# Altium footprint library SO-16-6.3mm.PcbLib: 1 footprints
Each footprint in its own frame and in the unit in brackets; x right, y up, seen from the top. Pads: shape width x height; smd on the part's side, far side on the other; paste and mask are expansions set on the pad; w line width, h text height; cw(c..) or ccw(c..) is an arc to the next point about the centre after c.
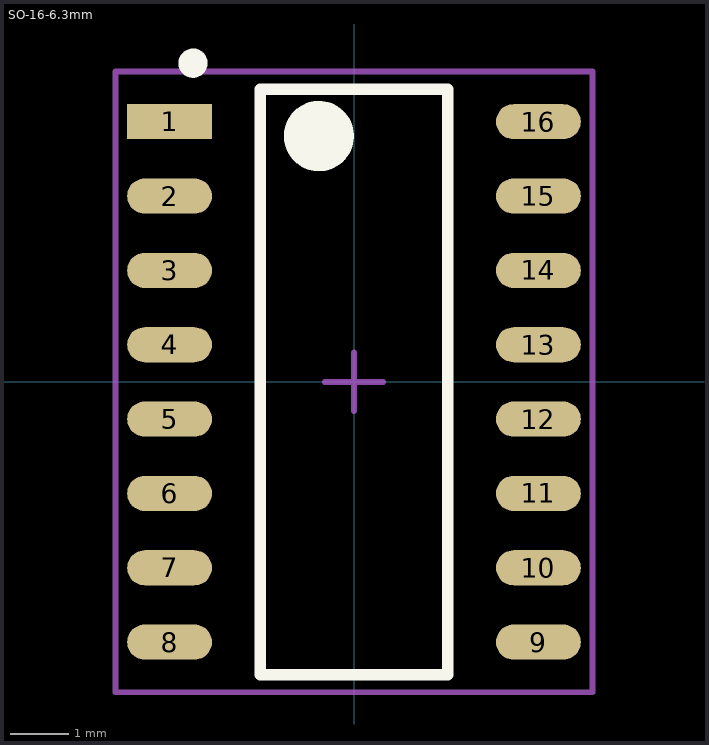
[diagram p0: the footprint, top view; thin cyan lines are the x and y axes]

## SO-16-6.3mm [mm] "Slightly wider SOIC-16 (6.3mm)"
pads (16):
  rect 1.45x0.6 smd: 1(-3.15,4.445)
  oval 1.45x0.6 smd: 2(-3.15,3.175) 3(-3.15,1.905) 4(-3.15,0.635) 5(-3.15,-0.635) 6(-3.15,-1.905) 7(-3.15,-3.175) 8(-3.15,-4.445) 9(3.15,-4.445) 10(3.15,-3.175) 11(3.15,-1.905) 12(3.15,-0.635) 13(3.15,0.635) 14(3.15,1.905) 15(3.15,3.175) 16(3.15,4.445)
Top Overlay:
  circle w0.6: c-0.6,4.2 r0.3
  circle w0.25: c-2.75,5.445 r0.125
  lines w0.2: -1.6,-5 -1.6,5 1.6,5 1.6,-5 -1.6,-5
Mechanical 15:
  lines w0.1: -0.5,0 0.5,0 ; 0,-0.5 0,0.5 ; -4.075,-5.3 4.075,-5.3 4.075,5.3 -4.075,5.3 -4.075,-5.3
3D body "SOIC16 narrow.stp": height 2, standoff 0, extent -3.107,-5.045 3.057,5.035